# EAGLE library part I__4531 (library ..SMD)
12-bit PARITY TREE
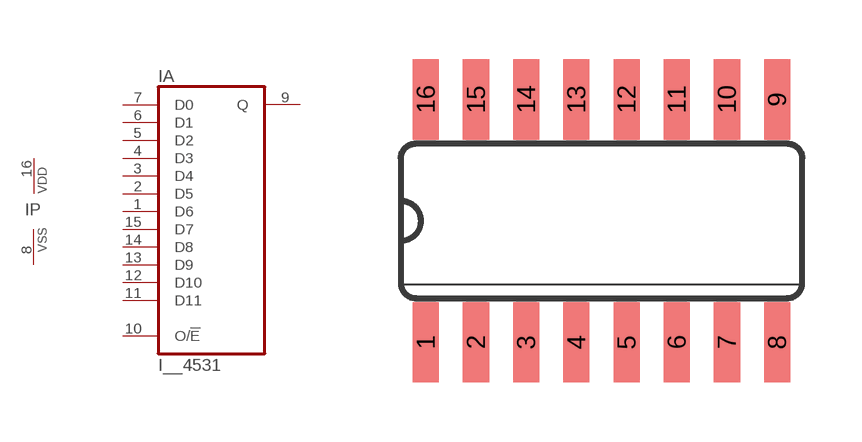
[diagram p115: symbol with the pads of SO16; footprint SO16]

Designator prefix I; gates A=4531 P=PWRN

## I__4531D  [SO16]
1  A:D6  in
2  A:D5  in
3  A:D4  in
4  A:D3  in
5  A:D2  in
6  A:D1  in
7  A:D0  in
8  P:VSS  pwr
9  A:Q  out
10  A:O/!E  in
11  A:D11  in
12  A:D10  in
13  A:D9  in
14  A:D8  in
15  A:D7  in
16  P:VDD  pwr

## Footprint SO16 (pad centres in mm)
Small Outline Package 16
smd 0.66 x 2.032: 1 -4.445,-3.073; 2 -3.175,-3.073; 3 -1.905,-3.073; 4 -0.635,-3.073; 5 0.635,-3.073; 6 1.905,-3.073; 7 3.175,-3.073; 8 4.445,-3.073; 9 4.445,3.073; 10 3.175,3.073; 11 1.905,3.073; 12 0.635,3.073; 13 -0.635,3.073; 14 -1.905,3.073; 15 -3.175,3.073; 16 -4.445,3.073